# Altium footprint library TNPW020125R0BEED.PcbLib: 3 footprints
Each footprint in its own frame and in the unit in brackets; x right, y up, seen from the top. Pads: shape width x height; smd on the part's side, far side on the other; paste and mask are expansions set on the pad; w line width, h text height; cw(c..) or ccw(c..) is an arc to the next point about the centre after c.
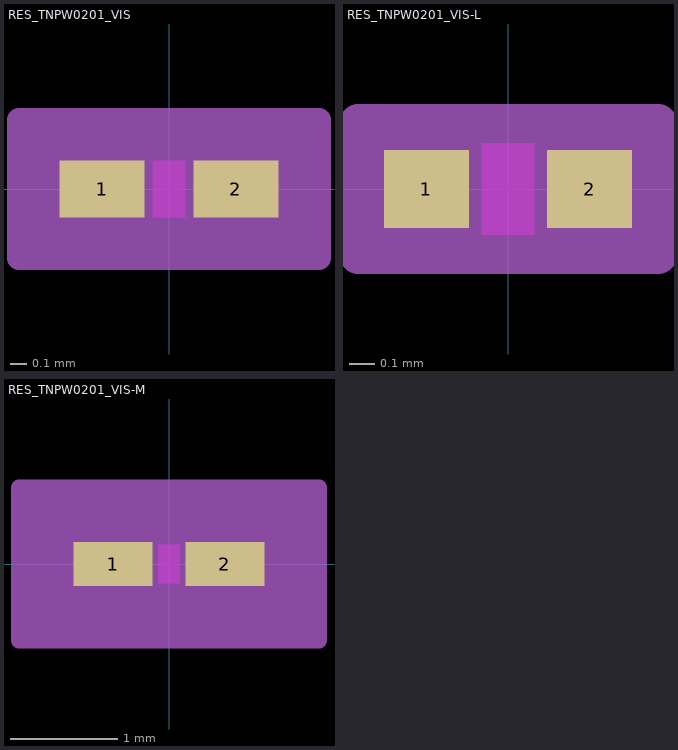
[diagram p0: the footprints below, top view; thin cyan lines are the x and y axes]

## RES_TNPW0201_VIS [mil]
pads (2):
  rect 21x14 smd paste+0 mask+0: 1(-16.5,0) 2(16.5,0)
Top Layer keep-out:
  region: -4,-5 -4,5 4,5 4,-5
Keep-Out Layer:
  region: -4,-7 -4,7 4,7 4,-7
Mechanical 13:
  lines w1: -13,-7 -13,7 ; -13,-7 -6,-7 -6,7 -13,7 ; -13,-7 13,-7 ; -13,-7 -13,7 ; -13,7 13,7 ; 13,-7 6,-7 6,7 13,7 ; 13,-7 13,7 ; 13,-7 13,7
Mechanical 15:
  region: 37,-17 -37,-17 -37,17 37,17
  lines w6: -37,-17 -37,17 37,17 37,-17 -37,-17
3D body "RES_TNPW0201_VIS.step": height 10, standoff 0, extent -12.99,-7.01 12.99,7.01

## RES_TNPW0201_VIS-L [mil]
pads (2):
  rect 13x12 smd paste+0 mask+0: 1(-12.5,0) 2(12.5,0)
Top Layer keep-out:
  region: -4,-5 -4,5 4,5 4,-5
Keep-Out Layer:
  region: -4,-7 -4,7 4,7 4,-7
Mechanical 13:
  lines w1: -13,-7 -13,7 ; -13,-7 -6,-7 -6,7 -13,7 ; -13,-7 13,-7 ; -13,-7 -13,7 ; -13,7 13,7 ; 13,-7 6,-7 6,7 13,7 ; 13,-7 13,7 ; 13,-7 13,7
Mechanical 15:
  region: 23,-10 -23,-10 -23,10 23,10
  lines w6: -23,-10 -23,10 23,10 23,-10 -23,-10
3D body "RES_TNPW0201_VIS.step": height 10, standoff 0, extent -12.99,-7.01 12.99,7.01

## RES_TNPW0201_VIS-M [mil]
pads (2):
  rect 29x16 smd paste+0 mask+0: 1(-20.5,0) 2(20.5,0)
Top Layer keep-out:
  region: -4,-5 -4,5 4,5 4,-5
Keep-Out Layer:
  region: -4,-7 -4,7 4,7 4,-7
Mechanical 13:
  lines w1: -13,-7 -13,7 ; -13,-7 -6,-7 -6,7 -13,7 ; -13,-7 13,-7 ; -13,-7 -13,7 ; -13,7 13,7 ; 13,-7 6,-7 6,7 13,7 ; 13,-7 13,7 ; 13,-7 13,7
Mechanical 15:
  region: 55,-28 -55,-28 -55,28 55,28
  lines w6: -55,-28 -55,28 55,28 55,-28 -55,-28
3D body "RES_TNPW0201_VIS.step": height 10, standoff 0, extent -12.99,-7.01 12.99,7.01